# EAGLE library part R6551 (library Synapseware-heritage)
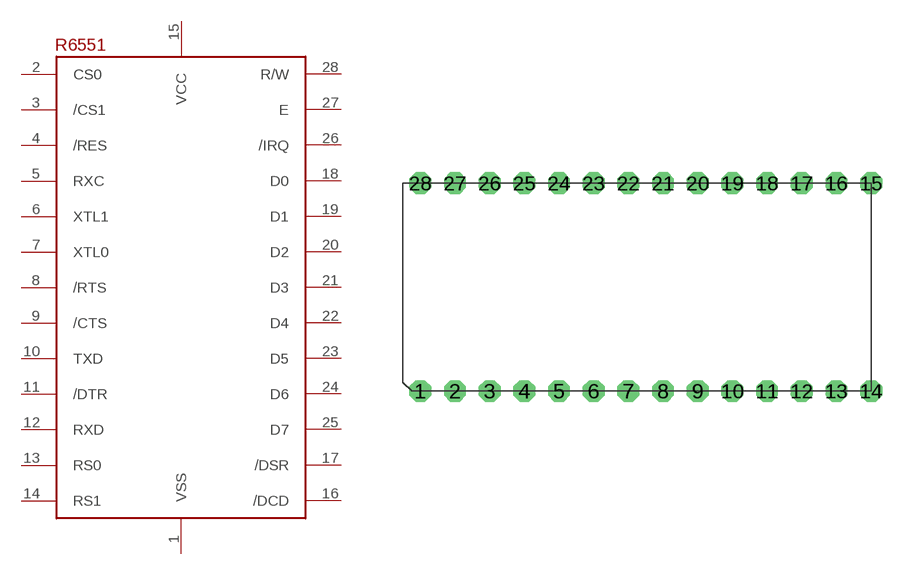
[diagram p0: symbol with the pads of DIL28; footprint DIL28]

Designator prefix -

## R6551  [DIL28]
1  VSS
2  CS0
3  /CS1
4  /RES
5  RXC
6  XTL1
7  XTL0
8  /RTS
9  /CTS
10  TXD
11  /DTR
12  RXD
13  RS0
14  RS1
15  VCC
16  /DCD
17  /DSR
18  D0
19  D1
20  D2
21  D3
22  D4
23  D5
24  D6
25  D7
26  /IRQ
27  E
28  R/W

## Footprint DIL28 (pad centres in mm)
drill 0.813 pad 1.6 octagon: 1 -16.51,-7.62; 2 -13.97,-7.62; 3 -11.43,-7.62; 4 -8.89,-7.62; 5 -6.35,-7.62; 6 -3.81,-7.62; 7 -1.27,-7.62; 8 1.27,-7.62; 9 3.81,-7.62; 10 6.35,-7.62; 11 8.89,-7.62; 12 11.43,-7.62; 13 13.97,-7.62; 14 16.51,-7.62; 15 16.51,7.62; 16 13.97,7.62; 17 11.43,7.62; 18 8.89,7.62; 19 6.35,7.62; 20 3.81,7.62; 21 1.27,7.62; 22 -1.27,7.62; 23 -3.81,7.62; 24 -6.35,7.62; 25 -8.89,7.62; 26 -11.43,7.62; 27 -13.97,7.62; 28 -16.51,7.62